# EAGLE library part NRF24L01 (library duppy_common)
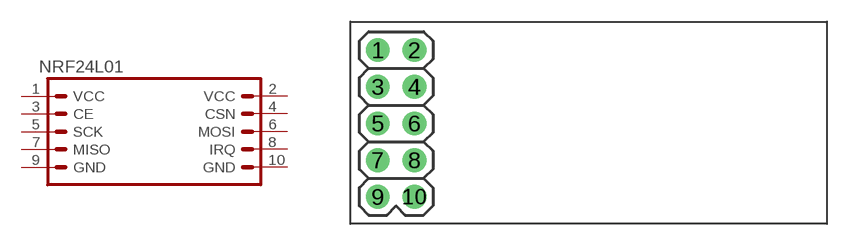
[diagram p2: symbol with the pads of NRF24L01; footprint NRF24L01]

Designator prefix -

## NRF24L01  [NRF24L01]
1  VCC
2  VCC
3  CE
4  CSN
5  SCK
6  MOSI
7  MISO
8  IRQ
9  GND
10  GND

## Footprint NRF24L01 (pad centres in mm)
drill 1.016 pad 1.651: 1 1.89,12.035; 2 4.43,12.035; 3 1.89,9.495; 4 4.43,9.495; 5 1.89,6.955; 6 4.43,6.955; 7 1.89,4.415; 8 4.43,4.415; 9 1.89,1.875; 10 4.43,1.875